# EAGLE library part AQW212 (library AQW212)
Solid State Relays - PCB Mount 500MA 60V 8PIN DPST Source: Datasheet <https://datasheet.datasheetarchive.com/originals/distributors/Datasheets-21/DSA-416252.pdf>
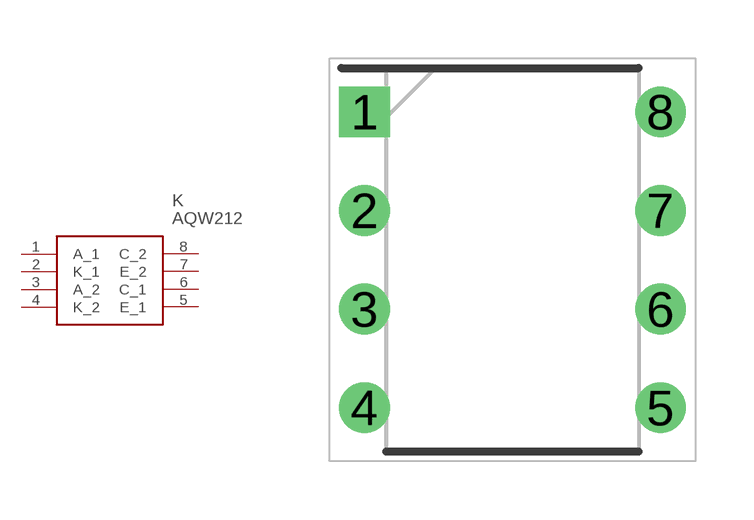
[diagram p0: symbol with the pads of DIP762W60P254L978H410Q8N; footprint DIP762W60P254L978H410Q8N]

Designator prefix K

## AQW212 (Allied_Number: 70618011; Description: Solid State Relays - PCB Mount 500MA 60V 8PIN DPST; Height: 4.1mm; Manufacturer_Name: Panasonic; Manufacturer_Part_Number: AQW212)  [DIP762W60P254L978H410Q8N]
1  A_1
2  K_1
3  A_2
4  K_2
5  E_1
6  C_1
7  E_2
8  C_2

## Footprint DIP762W60P254L978H410Q8N (pad centres in mm)
DIP8 AQH
drill 0.8 pad 1.2 square: 1 -3.81,3.81
drill 0.8 pad 1.2: 2 -3.81,1.27; 3 -3.81,-1.27; 4 -3.81,-3.81; 5 3.81,-3.81; 6 3.81,-1.27; 7 3.81,1.27; 8 3.81,3.81